# EAGLE library part SA3611EWA (library library)
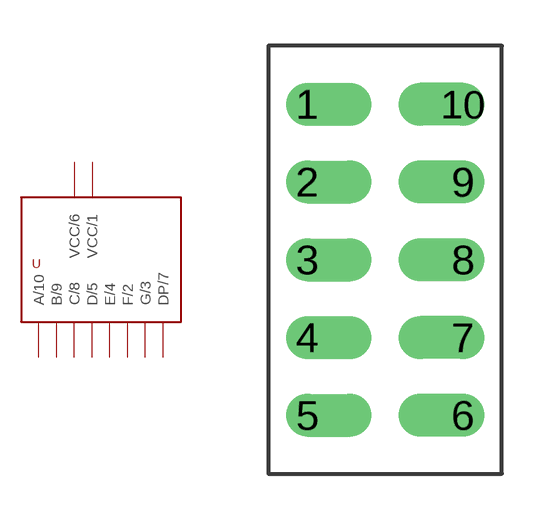
[diagram p0: symbol with the pads of SA3611EWA; footprint SA3611EWA]

Designator prefix -

## SA3611EWA  [SA3611EWA]
1  VCC/1
2  F/2
3  G/3
4  E/4
5  D/5
6  VCC/6
7  DP/7
8  C/8
9  B/9
10  A/10

## Footprint SA3611EWA (pad centres in mm)
drill 0.889 pad 1.27 offset: 1 0,0; 2 0,-2.54; 3 0,-5.08; 4 0,-7.62; 5 0,-10.16; 6 5.08,-10.16; 7 5.08,-7.62; 8 5.08,-5.08; 9 5.08,-2.54; 10 5.08,0